# EAGLE library part ISP_CONN_6PIN (library connectors)
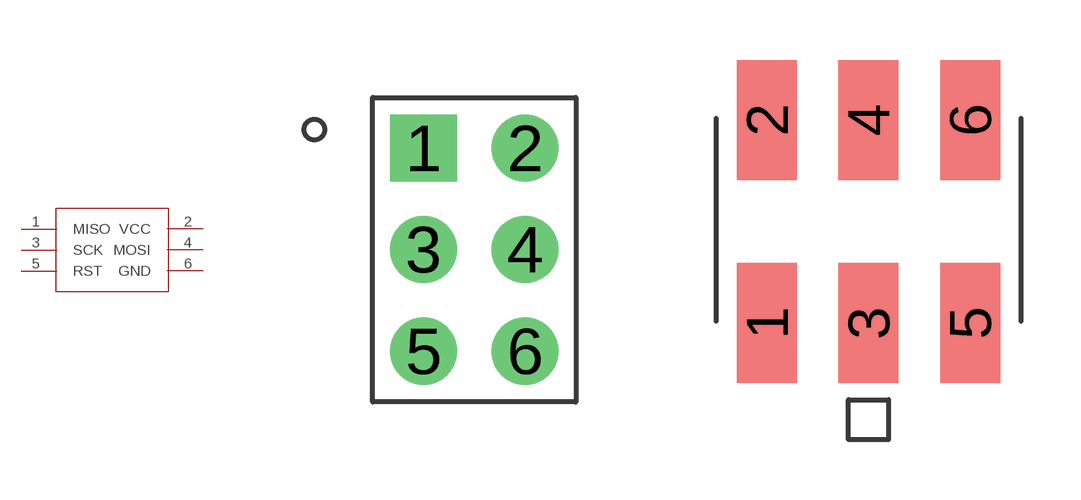
[diagram p1: symbol with the pads of 3X2_HEADER; footprints 3X2_HEADER, ICSP_SMT]

Designator prefix J

## ISP_CONN_6PINTHT  [3X2_HEADER]
1  MISO
2  VCC
3  SCK
4  MOSI
5  RST
6  GND

## ISP_CONN_6PIN  [ICSP_SMT]
Pads as for 3X2_HEADER

## Footprint 3X2_HEADER (pad centres in mm)
drill 1 pad 1.676 square: 1 -1.27,2.54
drill 1 pad 1.676: 2 1.27,2.54; 3 -1.27,0; 4 1.27,0; 5 -1.27,-2.54; 6 1.27,-2.54

## Footprint ICSP_SMT (pad centres in mm)
smd 1.5 x 3: 1 -2.54,-2.58; 2 -2.54,2.5; 3 0,-2.58; 4 0,2.5; 5 2.54,-2.58; 6 2.54,2.5